# Altium footprint library BAT54DW-7-F.PcbLib: 1 footprints
Each footprint in its own frame and in the unit in brackets; x right, y up, seen from the top. Pads: shape width x height; smd on the part's side, far side on the other; paste and mask are expansions set on the pad; w line width, h text height; cw(c..) or ccw(c..) is an arc to the next point about the centre after c.
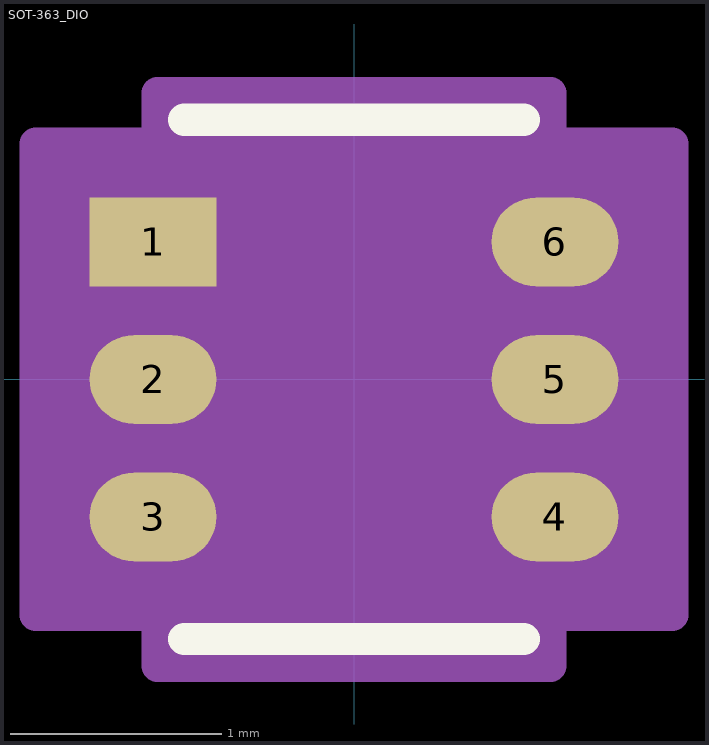
[diagram p0: the footprint, top view; thin cyan lines are the x and y axes]

## SOT-363_DIO [mm]
pads (6):
  rect 0.6x0.42 smd paste+0 mask+0: 1(-0.95,0.65)
  oval 0.6x0.42 smd paste+0 mask+0: 2(-0.95,0) 3(-0.95,-0.65) 4(0.95,-0.65) 5(0.95,0) 6(0.95,0.65)
Top Overlay:
  lines w0.152: -0.802,-1.227 0.802,-1.227 ; -0.802,1.227 0.802,1.227
Mechanical 13:
  circle w0: c-0.421,0.65 r0
  lines w0: -0.305,1.1 ccw(c0,1.1) 0.305,1.1
  lines w0.025: -0.675,-1.1 0.675,-1.1 0.675,1.1 -0.675,1.1 -0.675,-1.1
Mechanical 15:
  region: -0.929,-1.114 -1.504,-1.114 -1.504,1.114 -0.929,1.114 -0.929,1.354 0.929,1.354 0.929,1.114 1.504,1.114 1.504,-1.114 0.929,-1.114 0.929,-1.354 -0.929,-1.354
  lines w0.152: -1.504,-1.114 -1.504,1.114 -0.929,1.114 -0.929,1.354 0.929,1.354 0.929,1.114 1.504,1.114 1.504,-1.114 0.929,-1.114 0.929,-1.354 -0.929,-1.354 -0.929,-1.114 -1.504,-1.114
3D body "SOT-363_DIO.step": height 1, standoff 0, extent -0.9,-1.1 0.9,1.1